# EAGLE library part NOKIA-5510-48X84 (library lcd)
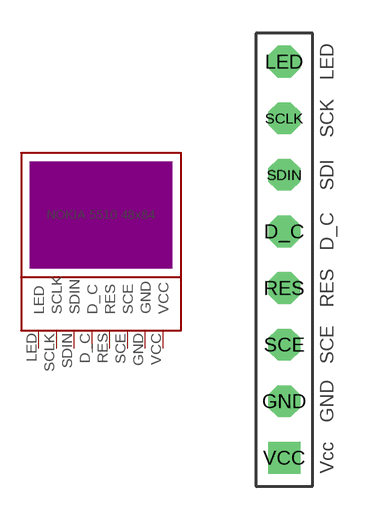
[diagram p1: symbol with the pads of CONN-LCD5510; footprint CONN-LCD5510]

Designator prefix -

## NOKIA-5510-48X84  [CONN-LCD5510]
D_C  D_C  pas
GND  GND  pas
LED  LED  pas
RES  RES  pas
SCE  SCE  pas
SCLK  SCLK  pas
SDIN  SDIN  pas
VCC  VCC  pas

## Footprint CONN-LCD5510 (pad centres in mm)
drill 0.9 pad 1.422 octagon: D_C 0,1.27; GND 0,-6.35; LED 0,8.89; RES 0,-1.27; SCE 0,-3.81; SCLK 0,6.35; SDIN 0,3.81
drill 0.9 pad 1.422 square: VCC 0,-8.89